# Altium footprint library AQ304501ETG.PcbLib: 1 footprints
Each footprint in its own frame and in the unit in brackets; x right, y up, seen from the top. Pads: shape width x height; smd on the part's side, far side on the other; paste and mask are expansions set on the pad; w line width, h text height; cw(c..) or ccw(c..) is an arc to the next point about the centre after c.
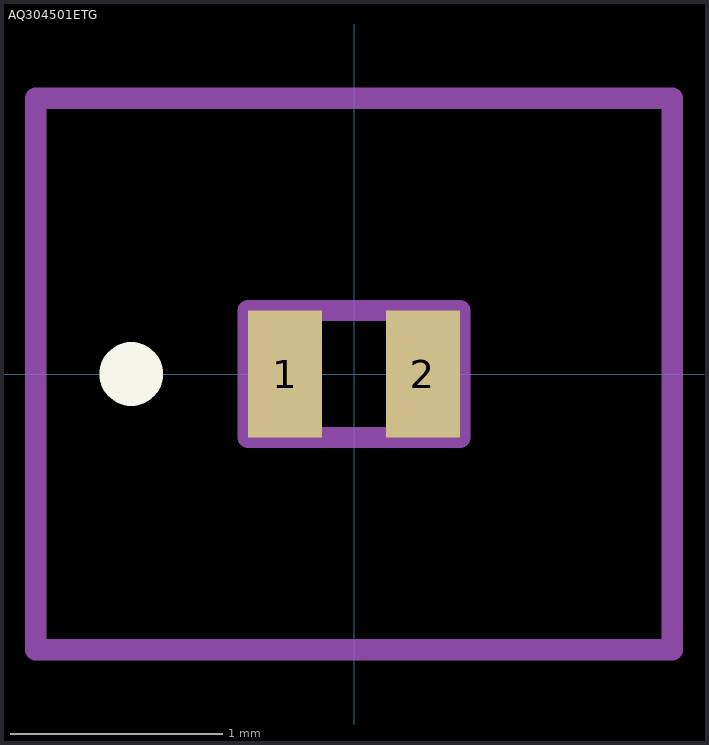
[diagram p0: the footprint, top view; thin cyan lines are the x and y axes]

## AQ304501ETG [mm]
pads (2):
  rect 0.35x0.6 smd: 1(-0.325,0) 2(0.325,0)
Top Overlay:
  lines w0.2: -1.1,0 cw(c-1.05,0) -1,0 ; -1.1,0 -1.1,0 ; -1.1,0 ccw(c-1.05,0) -1,0 ; -1.1,0 cw(c-1.05,0) -1,0 ; -1,0 -1,0 ; -1,0 -1,0
Mechanical 15:
  lines w0.1: -0.5,-0.3 0.5,-0.3 0.5,0.3 -0.5,0.3 -0.5,-0.3
Mechanical 20:
  lines w0.1: -1.5,-1.3 1.5,-1.3 1.5,1.3 -1.5,1.3 -1.5,-1.3